# Altium footprint library MLACH_obsolete.PCBLIB: 154 footprints (part 3 of 10)
Each footprint in its own frame and in the unit in brackets; x right, y up, seen from the top. Pads: shape width x height; smd on the part's side, far side on the other; paste and mask are expansions set on the pad; w line width, h text height; cw(c..) or ccw(c..) is an arc to the next point about the centre after c.
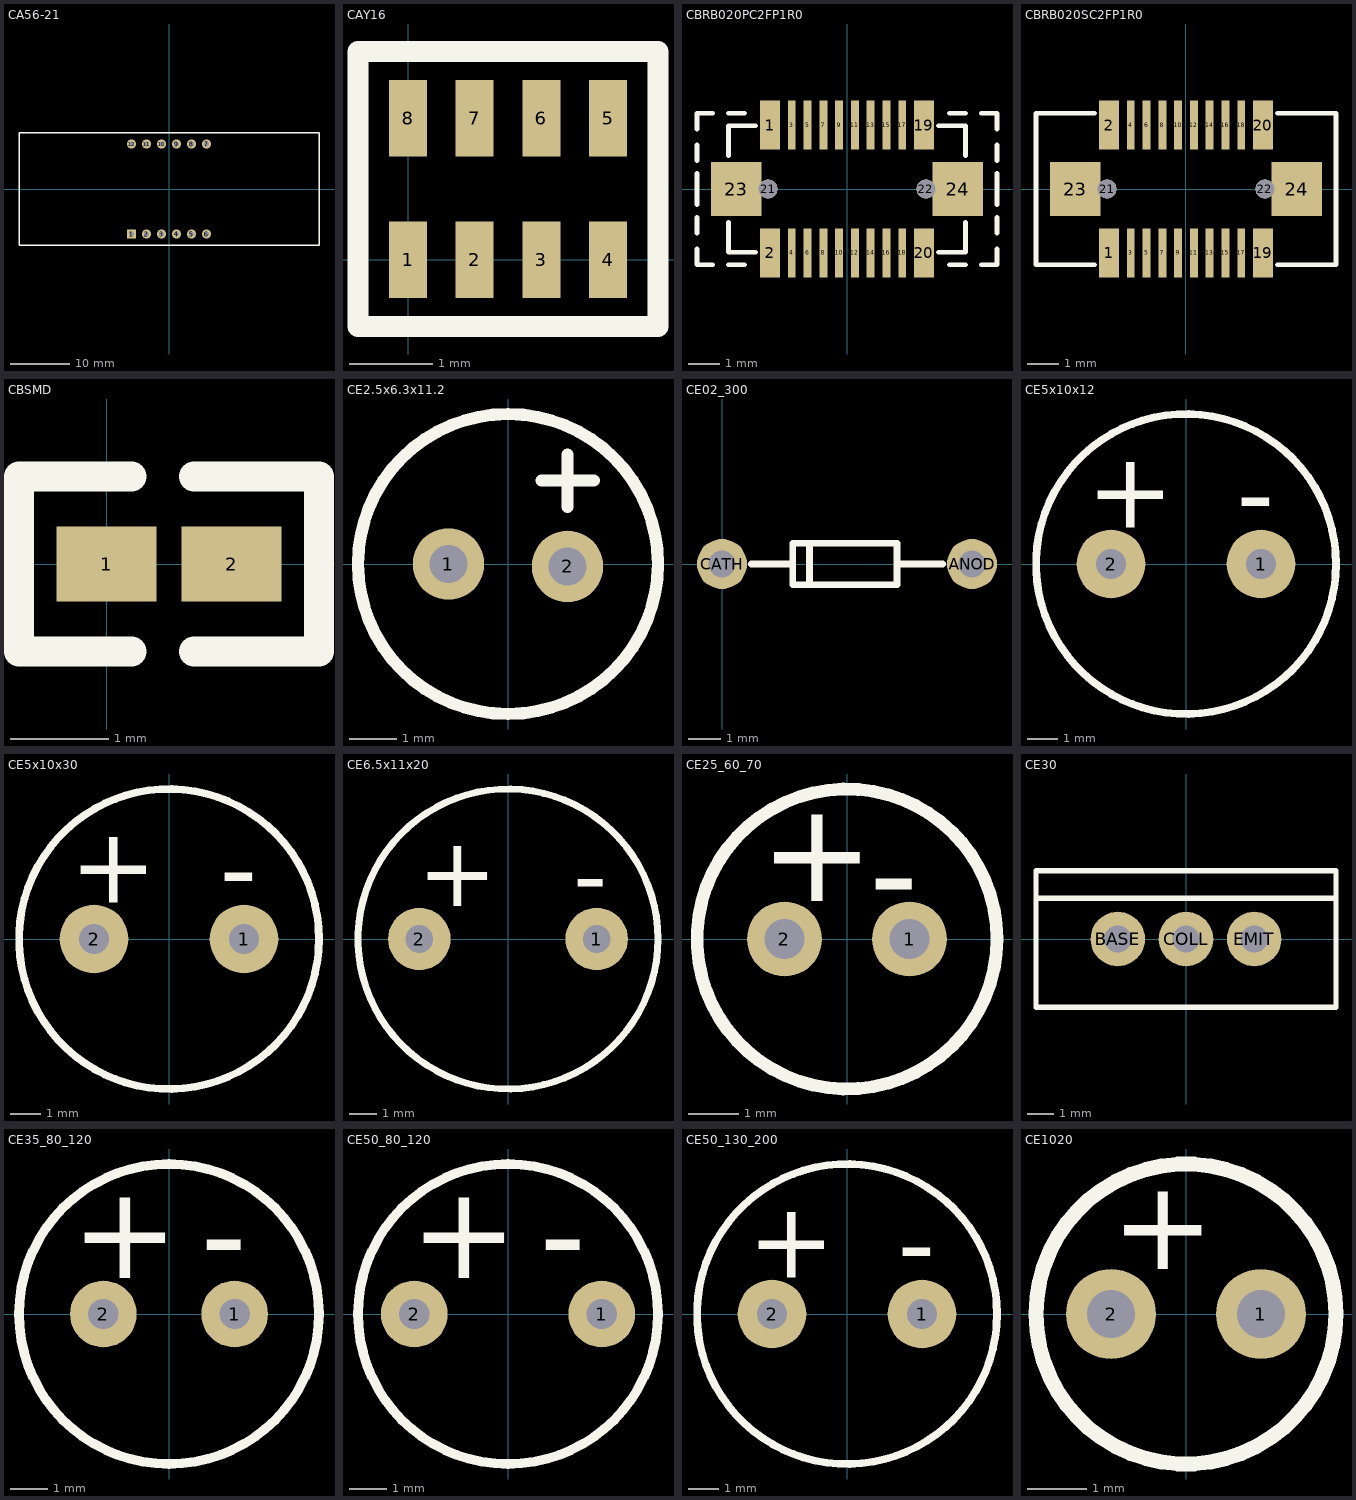
[diagram p2: the footprints below, top view; thin cyan lines are the x and y axes]

## CA56-21 [mil]
pads (12):
  rect 60x60 hole 32: 1(-250,-300)
  round 60 hole 32: 2(-150,-300) 3(-50,-300) 4(50,-300) 5(150,-300) 6(250,-300) 7(250,300) 8(150,300) 9(50,300) 10(-50,300) 11(-150,300) 12(-250,300)
TopOverlay:
  lines w10: -1000,-375 1000,-375 1000,375 -1000,375 -1000,-375

## CAY16 [mil]
pads (8):
  rect 18x36 smd: 1(0,0) 2(31.5,0) 3(62.99,0) 4(94.49,0) 5(94.49,66.93) 6(62.99,66.93) 7(31.5,66.93) 8(0,66.93)
TopOverlay:
  lines w10: -23.62,-31.5 -23.62,98.42 118.11,98.42 118.11,-31.5 -23.62,-31.5

## CBRB020PC2FP1R0 [mm]
pads (24):
  rect 0.63x1.55 smd: 1(-2.435,2.025) 2(-2.435,-2.025) 19(2.435,2.025) 20(2.435,-2.025)
  rect 0.25x1.55 smd: 3(-1.75,2.025) 4(-1.75,-2.025) 5(-1.25,2.025) 6(-1.25,-2.025) 7(-0.75,2.025) 8(-0.75,-2.025) 9(-0.25,2.025) 10(-0.25,-2.025) 11(0.25,2.025) 12(0.25,-2.025) 13(0.75,2.025) 14(0.75,-2.025) 15(1.25,2.025) 16(1.25,-2.025) 17(1.75,2.025) 18(1.75,-2.025)
  round 0.6 hole 0.6: 21(-2.5,0) 22(2.5,0)
  rect 1.6x1.7 smd: 23(-3.5,0) 24(3.5,0)
TopOverlay:
  lines w0.152: -4.75,-1.9 -4.75,-2.4 -4.25,-2.4 ; -4.75,-1.4 -4.75,-0.9 ; -4.75,-0.5 -4.75,0.5 ; -4.75,0.9 -4.75,1.4 ; -4.75,1.9 -4.75,2.4 -4.25,2.4 ; -3.75,-2.4 -3.25,-2.4 ; -3.75,-1.05 -3.75,-2 -2.9,-2 ; -3.75,1.05 -3.75,2 -2.9,2 ; -3.75,2.4 -3.25,2.4 ; 2.9,-2 3.75,-2 3.75,-1.05 ; 2.9,2 3.75,2 3.75,1.05 ; 3.25,-2.4 3.75,-2.4 ; 3.25,2.4 3.75,2.4 ; 4.25,-2.4 4.75,-2.4 4.75,-1.9 ; 4.25,2.4 4.75,2.4 4.75,1.9 ; 4.75,-1.4 4.75,-0.9 ; 4.75,-0.5 4.75,0.5 ; 4.75,0.9 4.75,1.4

## CBRB020SC2FP1R0 [mm]
pads (24):
  rect 0.63x1.55 smd: 1(-2.435,-2.025) 2(-2.435,2.025) 19(2.435,-2.025) 20(2.435,2.025)
  rect 0.25x1.55 smd: 3(-1.75,-2.025) 4(-1.75,2.025) 5(-1.25,-2.025) 6(-1.25,2.025) 7(-0.75,-2.025) 8(-0.75,2.025) 9(-0.25,-2.025) 10(-0.25,2.025) 11(0.25,-2.025) 12(0.25,2.025) 13(0.75,-2.025) 14(0.75,2.025) 15(1.25,-2.025) 16(1.25,2.025) 17(1.75,-2.025) 18(1.75,2.025)
  round 0.6 hole 0.6: 21(-2.5,0) 22(2.5,0)
  rect 1.6x1.7 smd: 23(-3.5,0) 24(3.5,0)
TopOverlay:
  lines w0.152: -2.9,-2.4 -4.75,-2.4 -4.75,2.4 -2.9,2.4 ; 2.9,-2.4 4.75,-2.4 4.75,2.4 2.9,2.4

## CBSMD [mil]
pads (2):
  rect 40x30 smd: 1(0,0) 2(50,0)
TopOverlay:
  lines w12: 10,-35 -35,-35 -35,35 10,35 ; 35,-35 85,-35 85,35 35,35

## CE2.5x6.3x11.2 [mm]
pads (2):
  round 1.5 hole 0.8: 1(-1.25,0) 2(1.25,-0.05)
TopOverlay:
  circle w0.254: c0,0 r3.15
  lines w0.254: 0.7,1.75 1.25,1.75 ; 1.25,1.2 1.25,1.75 ; 1.25,2.3 1.25,1.75 ; 1.8,1.75 1.25,1.75
3D body: height 11.2, standoff 0, extent -3.1,-3.15 3.175,3.138

## CE02_300 [mil]
pads (2):
  round 60 hole 32: ANOD(300,0) CATH(0,0)
TopOverlay:
  lines w8: 35,0 85,0 ; 105,-25 105,25 ; 210,0 265,0 ; 85,-25 210,-25 210,25 85,25 85,-25

## CE5x10x12 [mil]
pads (2):
  round 90 hole 40: 1(98.43,0) 2(-98.43,0)
TopOverlay:
  circle w10: c0,0 r196.85
  text "-" at 66.93,43.31 h100
  text "+" at -129.92,47.24 h100
3D body: height 472.44, standoff 0, extent -195.3,-196.46 196.85,196.46

## CE5x10x30 [mil]
pads (2):
  round 90 hole 40: 1(98.43,0) 2(-98.43,0)
TopOverlay:
  circle w10: c0,0 r196.85
  text "-" at 66.93,43.31 h100
  text "+" at -129.92,47.24 h100
3D body: height 1181.1, standoff 0, extent -195.3,-196.46 196.85,196.46

## CE6.5x11x20 [mil]
pads (2):
  round 90 hole 40: 1(127.95,0) 2(-127.95,0)
TopOverlay:
  circle w10: c0,0 r216.54
  text "-" at 94.49,43.31 h100
  text "+" at -129.92,47.24 h100
3D body: height 787.4, standoff 0, extent -216.54,-216.54 214.83,215.68

## CE25_60_70 [mm]
pads (2):
  round 1.5 hole 0.8: 1(1.25,0) 2(-1.25,0)
TopOverlay:
  circle w0.254: c0,0 r3
  text "+" at -1.75,0.75 h2
  text "-" at 0.45,0.35 h2
3D body: height 7, standoff 0, extent -2.988,-3 2.988,2.988
3D body: height 0, standoff -3, extent 0.85,-0.399 1.647,0.399
3D body: height 0, standoff -3, extent -1.65,-0.399 -0.853,0.399

## CE30 [mil]
pads (3):
  round 80 hole 40: BASE(-100,0) COLL(0,0) EMIT(100,0)
TopOverlay:
  lines w8: -220,60 220,60 ; -220,-100 -220,100 220,100 220,-100 -220,-100

## CE35_80_120 [mil]
pads (2):
  round 70 hole 32: 1(68.9,0) 2(-68.9,0)
TopOverlay:
  circle w10: c0,0 r157.48
  text "+" at -102.36,37.4 h98.43
  text "-" at 33.46,35.43 h98.43
3D body: height 472.44, standoff 0, extent -156.86,-157.48 156.86,156.86

## CE50_80_120 [mil]
pads (2):
  round 70 hole 32: 1(98.43,0) 2(-98.43,0)
TopOverlay:
  circle w10: c0,0 r157.48
  text "-" at 33.46,35.43 h98.43
  text "+" at -102.36,37.4 h98.43
3D body: height 472.44, standoff 0, extent -156.86,-157.48 156.86,156.86

## CE50_130_200 [mil]
pads (2):
  round 90 hole 40: 1(98.43,0) 2(-98.43,0)
TopOverlay:
  circle w10: c0,0 r196.85
  text "-" at 66.93,43.31 h100
  text "+" at -129.92,47.24 h100
3D body: height 787.4, standoff 0, extent -195.3,-196.46 196.85,196.46

## CE1020 [mil]
pads (2):
  round 60 hole 32: 1(50,0) 2(-50,0)
TopOverlay:
  circle w10: c0,0 r100
  text "+" at -50,30 h60